# EAGLE library part PCA9673 (library linear)
Remote 16-bit I/O expander for Fm+ I2C-bus with interrupt and reset
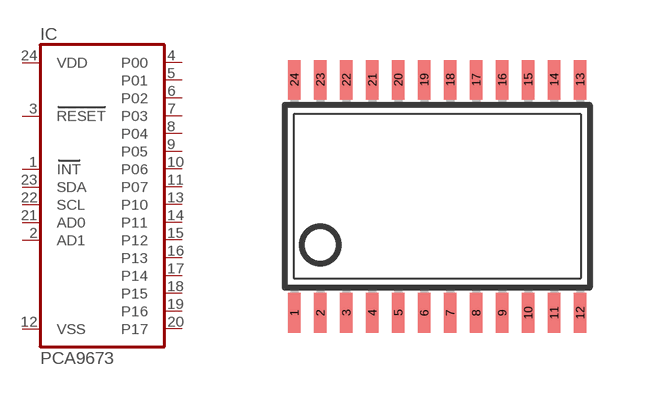
[diagram p204: symbol with the pads of TSSOP24; footprint TSSOP24]

Designator prefix IC

## PCA9673PW  [TSSOP24]
1  INT  in
2  AD1  in
3  RESET  in
4  P00
5  P01
6  P02
7  P03
8  P04
9  P05
10  P06
11  P07
12  VSS  pwr
13  P10
14  P11
15  P12
16  P13
17  P14
18  P15
19  P16
20  P17
21  AD0  in
22  SCL
23  SDA
24  VDD  pwr

## Footprint TSSOP24 (pad centres in mm)
Thin Shrink Small Outline Plastic 24
smd 0.305 x 0.991: 1 -3.575,-2.918; 2 -2.925,-2.918; 3 -2.275,-2.918; 4 -1.625,-2.918; 5 -0.975,-2.918; 6 -0.325,-2.918; 7 0.325,-2.918; 8 0.975,-2.918; 9 1.625,-2.918; 10 2.275,-2.918; 11 2.925,-2.918; 12 3.575,-2.918; 13 3.575,2.918; 14 2.925,2.918; 15 2.275,2.918; 16 1.625,2.918; 17 0.975,2.918; 18 0.325,2.918; 19 -0.325,2.918; 20 -0.975,2.918; 21 -1.625,2.918; 22 -2.275,2.918; 23 -2.925,2.918; 24 -3.575,2.918